# Altium integrated library FDV305N.IntLib: 1 symbol
Pins are listed as number, name and electrical type; pins without a type are passive.

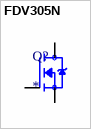
[diagram p0: symbol FDV305N]

## FDV305N
designator Q?
N-Channel 20V 900mA (Ta) 350mW (Ta) Surface Mount SOT-23; MF: ON Semiconductor; MP: FDV305N; Value: *; Check_prices: https://www.snapeda.com/parts/FDV305N/ON%20Semiconductor/view-part/2770265/?ref=eda; Availability: Warning; Package: SOT-23-3 Fairchild Semiconductor; SnapEDA_Link: https://www.snapeda.com/parts/FDV305N/ON%20Semiconductor/view-part/2770265/?ref=snap; Price: None; Purchase-URL: https://pricing.snapeda.com/search/part/FDV305N/?ref=eda
footprint SOT95P240X111-3N
pins: 1 G, 2 S, 3 D